# EAGLE library part LM25011 (library My_TI)
LM25011 Constant On-Time Switching Regulator With Adjustable Current Limit. Input Operating Voltage Range: 6 V to 42 V. Integrated 2-A N-Channel Buck Switch. Adjustable Current Limit Allows for Smaller inductor. Adjustable Output Voltage from 2.51 V. Datasheet <http://www.ti.com/lit/ds/symlink/lm25011.pdf>
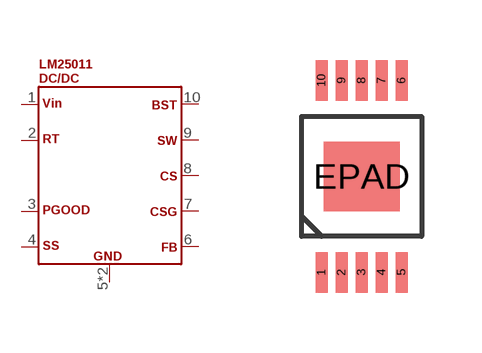
[diagram p30: symbol with the pads of HVSSOP-10; footprint HVSSOP-10]

Designator prefix DC/DC

## LM25011  [HVSSOP-10]
1  1
2  2
3  3
4  4
5  5
6  6
7  7
8  8
9  9
10  10
EPAD  5

## Footprint HVSSOP-10 (pad centres in mm)
smd 0.3 x 1.02: 1 -1,-2.4; 2 -0.5,-2.4; 3 0,-2.4; 4 0.5,-2.4; 5 1,-2.4; 6 1,2.4; 7 0.5,2.4; 8 0,2.4; 9 -0.5,2.4; 10 -1,2.4
smd 1.9 x 1.73: EPAD 0,0